# Altium integrated library TI Data Converters Analog to Digital Converter.IntLib: 2198 symbols (part 115 of 164)
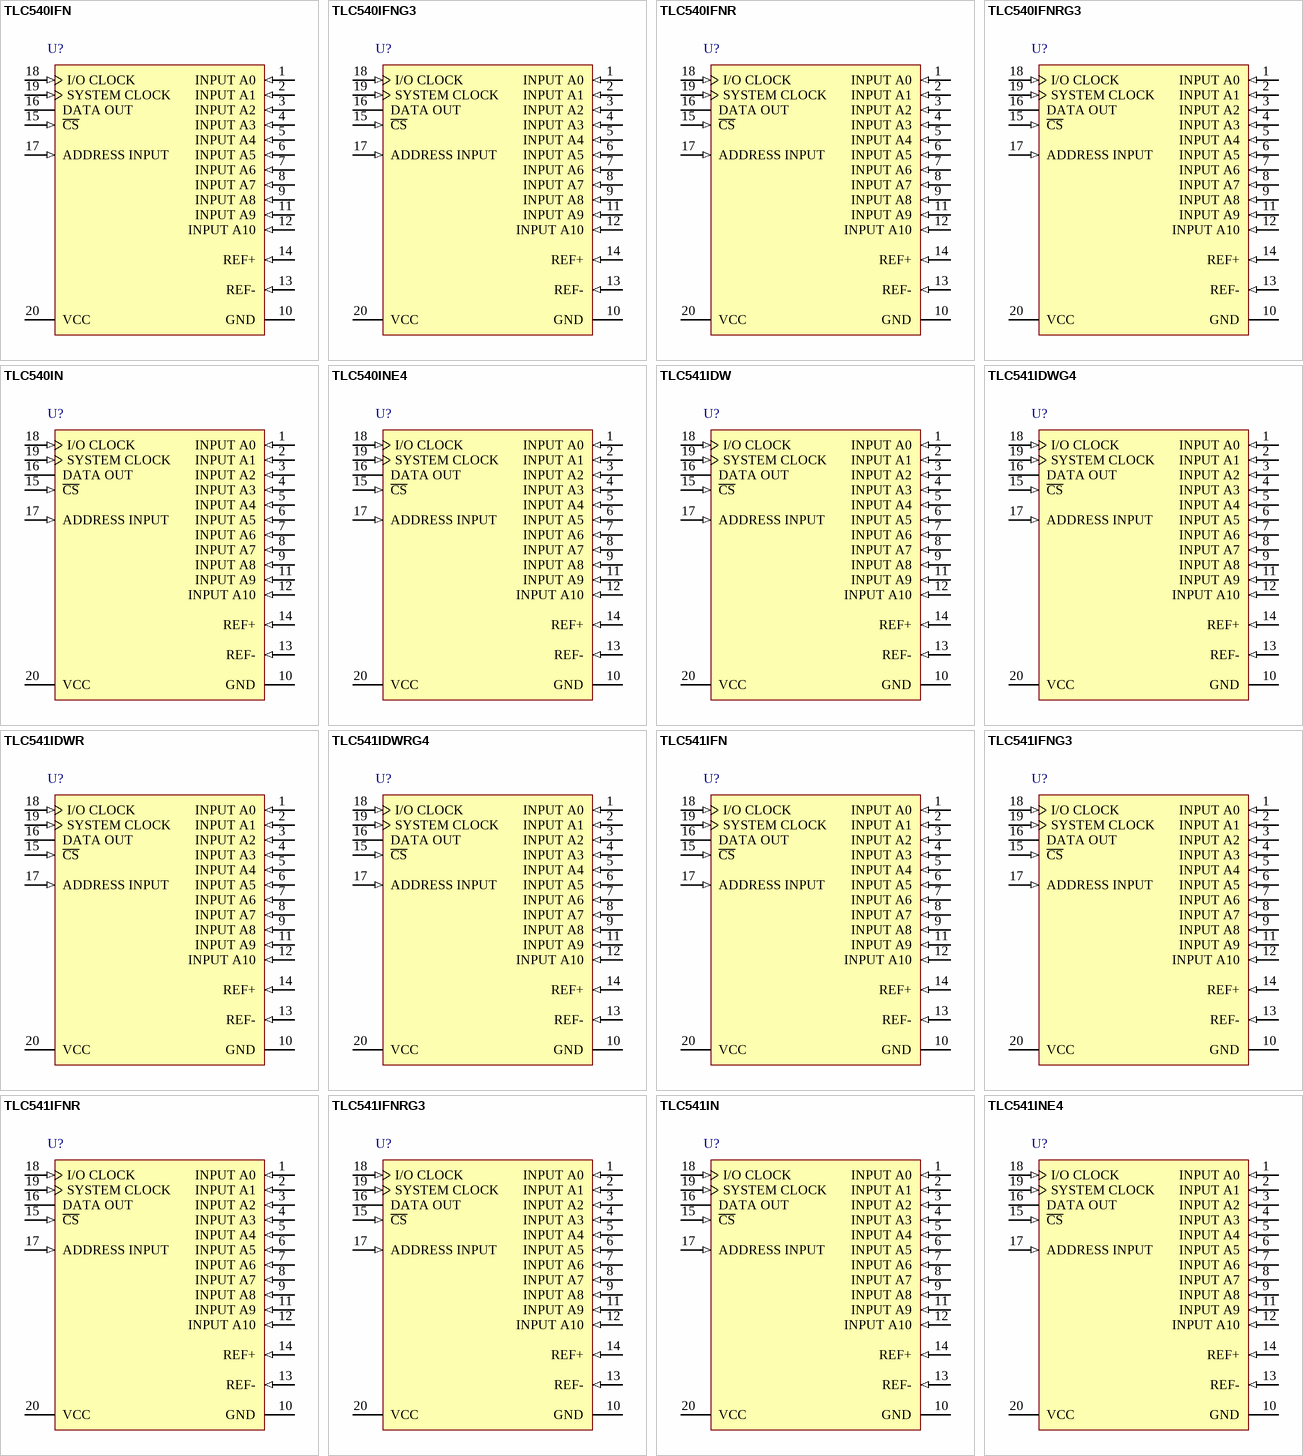
[diagram p240: symbols TLC540IFN to TLC541INE4]

## TLC541IFNR
designator U?
8-Bit, 40 kSPS ADC Serial-Out, On-Chip 12-Channel Analog Multiplexer, 11 Input Channel, -40 to 85 degC, 20-pin PLCC (FN20), Green (RoHS & no Sb/Br); Manufacturer: Texas Instruments; PartNumber: TLC541IFNR; # Input Channels: 11; Analog Voltage AV/DD(Max)(V): 5.5; Analog Voltage AV/DD(Min)(V): 4.75; Architecture: SAR; INL(Max)(+/-LSB): 0.5; Interface: Serial SPI; Resolution(Bits): 8; Sample Rate (max)(SPS): 40k; SubFamily: Precision ADC (<=10MSPS); DatasheetVersion: SLAS065B; PackageVersion: 4040005/B, 03/1995; PackageReference: FN20; PackageDescription: 20-Pin Plastic Chip Carrier, Body 8.965 x 8.965 mm, Pitch 1.27 mm; Supplier 1: Newark; Supplier Part Number 1: 85M0365; Digital Supply(Max)(V): 5.5; Digital Supply(Min)(V): 4.75; Eco-Plan: Green (RoHS & no Sb/Br); Mounting Technology: Surface Mount; Code_JEDEC: MS-018; ComponentLink1Description: Manufacturer URL; ComponentLink1URL: http://www.ti.com/; ComponentLink2Description: Datasheet; ComponentLink2URL: http://www.ti.com/general/docs/lit/getliterature.tsp?genericPartNumber=TLC541&fileType=pdf; ComponentLink3Description: Package Specification; ComponentLink3URL: http://www.ti.com/litv/pdf/mplc004a
footprint TI-FN20_N (PLCC, 20-Leads, Body 8.965x8.965mm, Pitch 1.27mm, IPC Medium Density)
footprint TI-FN20_L (PLCC, 20-Leads, Body 8.965x8.965mm, Pitch 1.27mm, IPC High Density)
footprint TI-FN20_M (PLCC, 20-Leads, Body 8.965x8.965mm, Pitch 1.27mm, IPC Low Density)
pins: 1 INPUT A0 (in), 2 INPUT A1 (in), 3 INPUT A2 (in), 4 INPUT A3 (in), 5 INPUT A4 (in), 6 INPUT A5 (in), 7 INPUT A6 (in), 8 INPUT A7 (in), 9 INPUT A8 (in), 10 GND (power), 11 INPUT A9 (in), 12 INPUT A10 (in), 13 REF- (in), 14 REF+ (in), 15 ~{CS} (in), 16 DATA OUT (hiz), 17 ADDRESS INPUT (in), 18 I/O CLOCK (in), 19 SYSTEM CLOCK (in), 20 VCC (power)

## TLC541IFNRG3
designator U?
8-Bit, 40 kSPS ADC Serial-Out, On-Chip 12-Channel Analog Multiplexer, 11 Input Channel, -40 to 85 degC, 20-pin PLCC (FN20), Green (RoHS & no Sb/Br); Manufacturer: Texas Instruments; PartNumber: TLC541IFNRG3; # Input Channels: 11; Analog Voltage AV/DD(Max)(V): 5.5; Analog Voltage AV/DD(Min)(V): 4.75; Architecture: SAR; INL(Max)(+/-LSB): 0.5; Interface: Serial SPI; Resolution(Bits): 8; Sample Rate (max)(SPS): 40k; SubFamily: Precision ADC (<=10MSPS); DatasheetVersion: SLAS065B; PackageVersion: 4040005/B, 03/1995; PackageReference: FN20; PackageDescription: 20-Pin Plastic Chip Carrier, Body 8.965 x 8.965 mm, Pitch 1.27 mm; Supplier 1: Digi-Key; Supplier Part Number 1: 296-2960-5-ND; Digital Supply(Max)(V): 5.5; Digital Supply(Min)(V): 4.75; Eco-Plan: Green (RoHS & no Sb/Br); Mounting Technology: Surface Mount; Code_JEDEC: MS-018; ComponentLink1Description: Manufacturer URL; ComponentLink1URL: http://www.ti.com/; ComponentLink2Description: Datasheet; ComponentLink2URL: http://www.ti.com/general/docs/lit/getliterature.tsp?genericPartNumber=TLC541&fileType=pdf; ComponentLink3Description: Package Specification; ComponentLink3URL: http://www.ti.com/litv/pdf/mplc004a
footprint TI-FN20_N (PLCC, 20-Leads, Body 8.965x8.965mm, Pitch 1.27mm, IPC Medium Density)
footprint TI-FN20_L (PLCC, 20-Leads, Body 8.965x8.965mm, Pitch 1.27mm, IPC High Density)
footprint TI-FN20_M (PLCC, 20-Leads, Body 8.965x8.965mm, Pitch 1.27mm, IPC Low Density)
pins: 1 INPUT A0 (in), 2 INPUT A1 (in), 3 INPUT A2 (in), 4 INPUT A3 (in), 5 INPUT A4 (in), 6 INPUT A5 (in), 7 INPUT A6 (in), 8 INPUT A7 (in), 9 INPUT A8 (in), 10 GND (power), 11 INPUT A9 (in), 12 INPUT A10 (in), 13 REF- (in), 14 REF+ (in), 15 ~{CS} (in), 16 DATA OUT (hiz), 17 ADDRESS INPUT (in), 18 I/O CLOCK (in), 19 SYSTEM CLOCK (in), 20 VCC (power)

## TLC541IN
designator U?
8-Bit, 40 kSPS ADC Serial-Out, On-Chip 12-Channel Analog Multiplexer, 11 Input Channel, -40 to 85 degC, 20-pin DIP (N20), Pb-Free (RoHS); Manufacturer: Texas Instruments; PartNumber: TLC541IN; # Input Channels: 11; Analog Voltage AV/DD(Max)(V): 5.5; Analog Voltage AV/DD(Min)(V): 4.75; Architecture: SAR; INL(Max)(+/-LSB): 0.5; Interface: Serial SPI; Resolution(Bits): 8; Sample Rate (max)(SPS): 40k; SubFamily: Precision ADC (<=10MSPS); DatasheetVersion: SLAS065B; PackageVersion: 4040049/E, 12/2002; PackageReference: N20; PackageDescription: 20-Pin Plastic In-Line, Body 25.40 x 6.35 mm, Pitch 2.54 mm; Supplier 1: Digi-Key; Supplier Part Number 1: TLV1544CDG4-ND; Digital Supply(Max)(V): 5.5; Digital Supply(Min)(V): 4.75; Eco-Plan: Pb-Free (RoHS); Mounting Technology: Through Hole; Code_JEDEC: MS-001; ComponentLink1Description: Manufacturer URL; ComponentLink1URL: http://www.ti.com/; ComponentLink2Description: Datasheet; ComponentLink2URL: http://www.ti.com/general/docs/lit/getliterature.tsp?genericPartNumber=TLC541&fileType=pdf; ComponentLink3Description: Package Specification; ComponentLink3URL: http://www.ti.com/lit/ml/mpdi002c/mpdi002c.pdf
footprint TI-N20 (DIP, 20-Leads, Body 25.4x6.35 mm, Pitch 2.54 mm)
pins: 1 INPUT A0 (in), 2 INPUT A1 (in), 3 INPUT A2 (in), 4 INPUT A3 (in), 5 INPUT A4 (in), 6 INPUT A5 (in), 7 INPUT A6 (in), 8 INPUT A7 (in), 9 INPUT A8 (in), 10 GND (power), 11 INPUT A9 (in), 12 INPUT A10 (in), 13 REF- (in), 14 REF+ (in), 15 ~{CS} (in), 16 DATA OUT (hiz), 17 ADDRESS INPUT (in), 18 I/O CLOCK (in), 19 SYSTEM CLOCK (in), 20 VCC (power)

## TLC541INE4
designator U?
8-Bit, 40 kSPS ADC Serial-Out, On-Chip 12-Channel Analog Multiplexer, 11 Input Channel, -40 to 85 degC, 20-pin DIP (N20), Pb-Free (RoHS); Manufacturer: Texas Instruments; PartNumber: TLC541INE4; # Input Channels: 11; Analog Voltage AV/DD(Max)(V): 5.5; Analog Voltage AV/DD(Min)(V): 4.75; Architecture: SAR; INL(Max)(+/-LSB): 0.5; Interface: Serial SPI; Resolution(Bits): 8; Sample Rate (max)(SPS): 40k; SubFamily: Precision ADC (<=10MSPS); DatasheetVersion: SLAS065B; PackageVersion: 4040049/E, 12/2002; PackageReference: N20; PackageDescription: 20-Pin Plastic In-Line, Body 25.40 x 6.35 mm, Pitch 2.54 mm; Supplier 1: Digi-Key; Supplier Part Number 1: TLV1544CDR-ND; Digital Supply(Max)(V): 5.5; Digital Supply(Min)(V): 4.75; Eco-Plan: Pb-Free (RoHS); Mounting Technology: Through Hole; Code_JEDEC: MS-001; ComponentLink1Description: Manufacturer URL; ComponentLink1URL: http://www.ti.com/; ComponentLink2Description: Datasheet; ComponentLink2URL: http://www.ti.com/general/docs/lit/getliterature.tsp?genericPartNumber=TLC541&fileType=pdf; ComponentLink3Description: Package Specification; ComponentLink3URL: http://www.ti.com/lit/ml/mpdi002c/mpdi002c.pdf
footprint TI-N20 (DIP, 20-Leads, Body 25.4x6.35 mm, Pitch 2.54 mm)
pins: 1 INPUT A0 (in), 2 INPUT A1 (in), 3 INPUT A2 (in), 4 INPUT A3 (in), 5 INPUT A4 (in), 6 INPUT A5 (in), 7 INPUT A6 (in), 8 INPUT A7 (in), 9 INPUT A8 (in), 10 GND (power), 11 INPUT A9 (in), 12 INPUT A10 (in), 13 REF- (in), 14 REF+ (in), 15 ~{CS} (in), 16 DATA OUT (hiz), 17 ADDRESS INPUT (in), 18 I/O CLOCK (in), 19 SYSTEM CLOCK (in), 20 VCC (power)

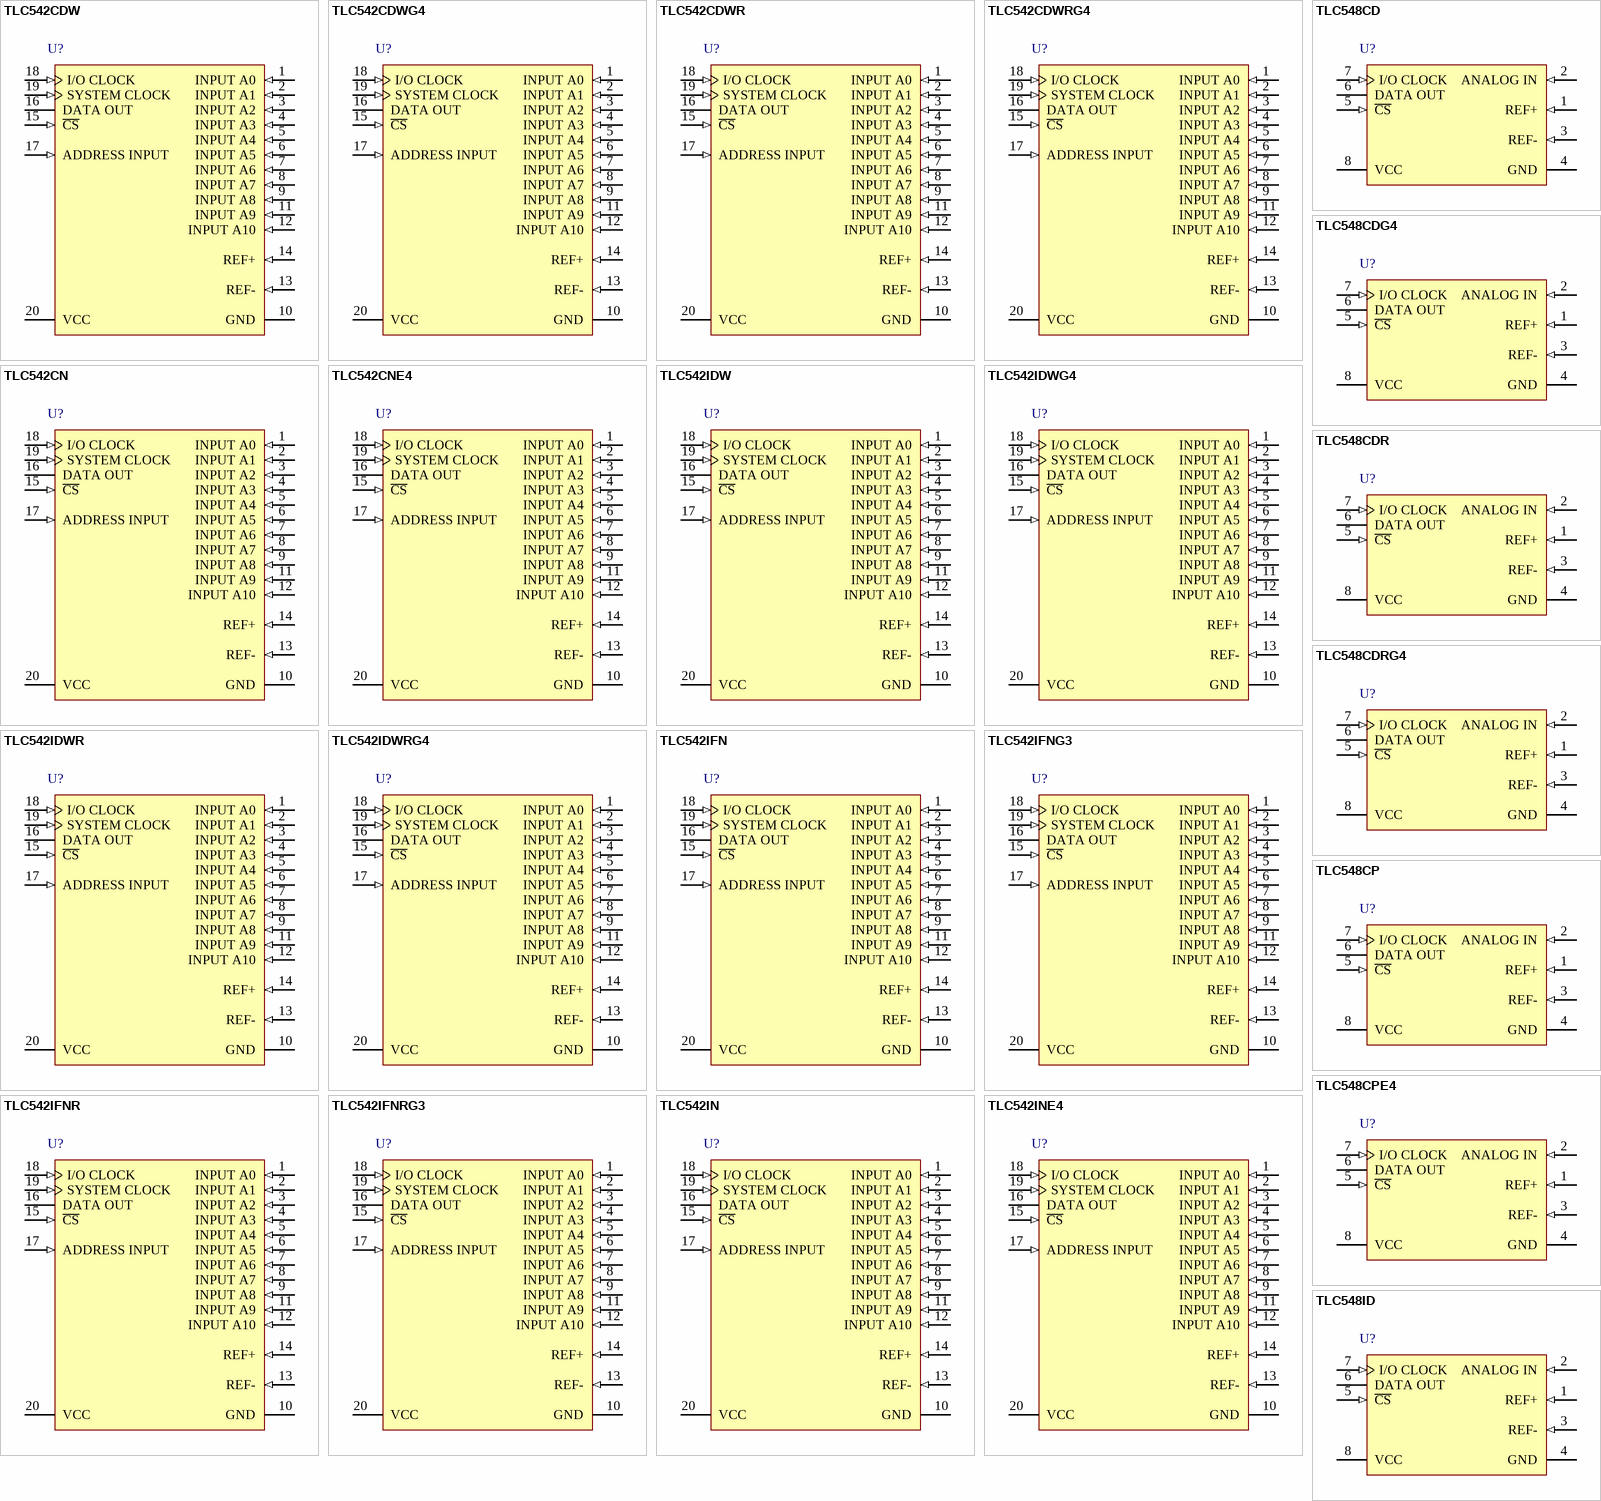
[diagram p101: symbols TLC542CDW to TLC548ID]

## TLC542CDW
designator U?
8-Bit, 25 kSPS ADC Serial-Out, On-Chip 11-Channel Analog Multiplexer, 0 to 70 degC, 20-pin SOIC (DW20), Green (RoHS & no Sb/Br); Manufacturer: Texas Instruments; PartNumber: TLC542CDW; # Input Channels: 11; Analog Voltage AV/DD(Max)(V): 5.5; Analog Voltage AV/DD(Min)(V): 4.75; Architecture: SAR; INL(Max)(+/-LSB): 0.5; Interface: Serial SPI; Resolution(Bits): 8; Sample Rate (max)(SPS): 25k; SubFamily: Low Power, 8-Bit, Dual 1.5 GSPS or Single 3.0 GSPS A/D Converter; DatasheetVersion: SLAS075C; PackageVersion: 4040000-4/G, 01/2011; PackageReference: DW20; PackageDescription: 20-Pin Plastic Small Outline, Body 12.8 x 7.5 mm, Pitch 1.27 mm; Supplier 1: Digi-Key; Supplier Part Number 1: TLV1544CDRG4-ND; Digital Supply(Max)(V): 5.5; Digital Supply(Min)(V): 4.75; Eco-Plan: Green (RoHS & no Sb/Br); Mounting Technology: Surface Mount; Code_JEDEC: MO-013; ComponentLink1Description: Manufacturer URL; ComponentLink1URL: http://www.ti.com/; ComponentLink2Description: Datasheet; ComponentLink2URL: http://www.ti.com/general/docs/lit/getliterature.tsp?genericPartNumber=TLC542&fileType=pdf; ComponentLink3Description: Package Specification; ComponentLink3URL: http://www.ti.com/lit/ml/mpds173a/mpds173a.pdf
footprint TI-DW20_N (SOIC, 20-Leads, Body 12.8x7.5mm, Pitch 1.27mm, IPC Medium Density)
footprint TI-DW20_L (SOIC, 20-Leads, Body 12.8x7.5mm, Pitch 1.27mm, IPC High Density)
footprint TI-DW20_M (SOIC, 20-Leads, Body 12.8x7.5mm, Pitch 1.27mm, IPC Low Density)
pins: 1 INPUT A0 (in), 2 INPUT A1 (in), 3 INPUT A2 (in), 4 INPUT A3 (in), 5 INPUT A4 (in), 6 INPUT A5 (in), 7 INPUT A6 (in), 8 INPUT A7 (in), 9 INPUT A8 (in), 10 GND (power), 11 INPUT A9 (in), 12 INPUT A10 (in), 13 REF- (in), 14 REF+ (in), 15 ~{CS} (in), 16 DATA OUT (hiz), 17 ADDRESS INPUT (in), 18 I/O CLOCK (in), 19 SYSTEM CLOCK (in), 20 VCC (power)

## TLC542CDWG4
designator U?
8-Bit, 25 kSPS ADC Serial-Out, On-Chip 11-Channel Analog Multiplexer, 0 to 70 degC, 20-pin SOIC (DW20), Green (RoHS & no Sb/Br); Manufacturer: Texas Instruments; PartNumber: TLC542CDWG4; # Input Channels: 11; Analog Voltage AV/DD(Max)(V): 5.5; Analog Voltage AV/DD(Min)(V): 4.75; Architecture: SAR; INL(Max)(+/-LSB): 0.5; Interface: Serial SPI; Resolution(Bits): 8; Sample Rate (max)(SPS): 25k; SubFamily: Low Power, 8-Bit, Dual 1.5 GSPS or Single 3.0 GSPS A/D Converter; DatasheetVersion: SLAS075C; PackageVersion: 4040000-4/G, 01/2011; PackageReference: DW20; PackageDescription: 20-Pin Plastic Small Outline, Body 12.8 x 7.5 mm, Pitch 1.27 mm; Supplier 1: Digi-Key; Supplier Part Number 1: 296-2193-5-ND; Digital Supply(Max)(V): 5.5; Digital Supply(Min)(V): 4.75; Eco-Plan: Green (RoHS & no Sb/Br); Mounting Technology: Surface Mount; Code_JEDEC: MO-013; ComponentLink1Description: Manufacturer URL; ComponentLink1URL: http://www.ti.com/; ComponentLink2Description: Datasheet; ComponentLink2URL: http://www.ti.com/general/docs/lit/getliterature.tsp?genericPartNumber=TLC542&fileType=pdf; ComponentLink3Description: Package Specification; ComponentLink3URL: http://www.ti.com/lit/ml/mpds173a/mpds173a.pdf
footprint TI-DW20_N (SOIC, 20-Leads, Body 12.8x7.5mm, Pitch 1.27mm, IPC Medium Density)
footprint TI-DW20_L (SOIC, 20-Leads, Body 12.8x7.5mm, Pitch 1.27mm, IPC High Density)
footprint TI-DW20_M (SOIC, 20-Leads, Body 12.8x7.5mm, Pitch 1.27mm, IPC Low Density)
pins: 1 INPUT A0 (in), 2 INPUT A1 (in), 3 INPUT A2 (in), 4 INPUT A3 (in), 5 INPUT A4 (in), 6 INPUT A5 (in), 7 INPUT A6 (in), 8 INPUT A7 (in), 9 INPUT A8 (in), 10 GND (power), 11 INPUT A9 (in), 12 INPUT A10 (in), 13 REF- (in), 14 REF+ (in), 15 ~{CS} (in), 16 DATA OUT (hiz), 17 ADDRESS INPUT (in), 18 I/O CLOCK (in), 19 SYSTEM CLOCK (in), 20 VCC (power)

## TLC542CDWR
designator U?
8-Bit, 25 kSPS ADC Serial-Out, On-Chip 11-Channel Analog Multiplexer, 0 to 70 degC, 20-pin SOIC (DW20), Green (RoHS & no Sb/Br); Manufacturer: Texas Instruments; PartNumber: TLC542CDWR; # Input Channels: 11; Analog Voltage AV/DD(Max)(V): 5.5; Analog Voltage AV/DD(Min)(V): 4.75; Architecture: SAR; INL(Max)(+/-LSB): 0.5; Interface: Serial SPI; Resolution(Bits): 8; Sample Rate (max)(SPS): 25k; SubFamily: Low Power, 8-Bit, Dual 1.5 GSPS or Single 3.0 GSPS A/D Converter; DatasheetVersion: SLAS075C; PackageVersion: 4040000-4/G, 01/2011; PackageReference: DW20; PackageDescription: 20-Pin Plastic Small Outline, Body 12.8 x 7.5 mm, Pitch 1.27 mm; Supplier 1: Digi-Key; Supplier Part Number 1: TLV1544CPWG4-ND; Digital Supply(Max)(V): 5.5; Digital Supply(Min)(V): 4.75; Eco-Plan: Green (RoHS & no Sb/Br); Mounting Technology: Surface Mount; Code_JEDEC: MO-013; ComponentLink1Description: Manufacturer URL; ComponentLink1URL: http://www.ti.com/; ComponentLink2Description: Datasheet; ComponentLink2URL: http://www.ti.com/general/docs/lit/getliterature.tsp?genericPartNumber=TLC542&fileType=pdf; ComponentLink3Description: Package Specification; ComponentLink3URL: http://www.ti.com/lit/ml/mpds173a/mpds173a.pdf
footprint TI-DW20_N (SOIC, 20-Leads, Body 12.8x7.5mm, Pitch 1.27mm, IPC Medium Density)
footprint TI-DW20_L (SOIC, 20-Leads, Body 12.8x7.5mm, Pitch 1.27mm, IPC High Density)
footprint TI-DW20_M (SOIC, 20-Leads, Body 12.8x7.5mm, Pitch 1.27mm, IPC Low Density)
pins: 1 INPUT A0 (in), 2 INPUT A1 (in), 3 INPUT A2 (in), 4 INPUT A3 (in), 5 INPUT A4 (in), 6 INPUT A5 (in), 7 INPUT A6 (in), 8 INPUT A7 (in), 9 INPUT A8 (in), 10 GND (power), 11 INPUT A9 (in), 12 INPUT A10 (in), 13 REF- (in), 14 REF+ (in), 15 ~{CS} (in), 16 DATA OUT (hiz), 17 ADDRESS INPUT (in), 18 I/O CLOCK (in), 19 SYSTEM CLOCK (in), 20 VCC (power)

## TLC542CDWRG4
designator U?
8-Bit, 25 kSPS ADC Serial-Out, On-Chip 11-Channel Analog Multiplexer, 0 to 70 degC, 20-pin SOIC (DW20), Green (RoHS & no Sb/Br); Manufacturer: Texas Instruments; PartNumber: TLC542CDWRG4; # Input Channels: 11; Analog Voltage AV/DD(Max)(V): 5.5; Analog Voltage AV/DD(Min)(V): 4.75; Architecture: SAR; INL(Max)(+/-LSB): 0.5; Interface: Serial SPI; Resolution(Bits): 8; Sample Rate (max)(SPS): 25k; SubFamily: Low Power, 8-Bit, Dual 1.5 GSPS or Single 3.0 GSPS A/D Converter; DatasheetVersion: SLAS075C; PackageVersion: 4040000-4/G, 01/2011; PackageReference: DW20; PackageDescription: 20-Pin Plastic Small Outline, Body 12.8 x 7.5 mm, Pitch 1.27 mm; Supplier 1: Digi-Key; Supplier Part Number 1: TLV1544CPWR-ND; Digital Supply(Max)(V): 5.5; Digital Supply(Min)(V): 4.75; Eco-Plan: Green (RoHS & no Sb/Br); Mounting Technology: Surface Mount; Code_JEDEC: MO-013; ComponentLink1Description: Manufacturer URL; ComponentLink1URL: http://www.ti.com/; ComponentLink2Description: Datasheet; ComponentLink2URL: http://www.ti.com/general/docs/lit/getliterature.tsp?genericPartNumber=TLC542&fileType=pdf; ComponentLink3Description: Package Specification; ComponentLink3URL: http://www.ti.com/lit/ml/mpds173a/mpds173a.pdf
footprint TI-DW20_N (SOIC, 20-Leads, Body 12.8x7.5mm, Pitch 1.27mm, IPC Medium Density)
footprint TI-DW20_L (SOIC, 20-Leads, Body 12.8x7.5mm, Pitch 1.27mm, IPC High Density)
footprint TI-DW20_M (SOIC, 20-Leads, Body 12.8x7.5mm, Pitch 1.27mm, IPC Low Density)
pins: 1 INPUT A0 (in), 2 INPUT A1 (in), 3 INPUT A2 (in), 4 INPUT A3 (in), 5 INPUT A4 (in), 6 INPUT A5 (in), 7 INPUT A6 (in), 8 INPUT A7 (in), 9 INPUT A8 (in), 10 GND (power), 11 INPUT A9 (in), 12 INPUT A10 (in), 13 REF- (in), 14 REF+ (in), 15 ~{CS} (in), 16 DATA OUT (hiz), 17 ADDRESS INPUT (in), 18 I/O CLOCK (in), 19 SYSTEM CLOCK (in), 20 VCC (power)

## TLC542CN
designator U?
8-Bit, 25 kSPS ADC Serial-Out, On-Chip 11-Channel Analog Multiplexer, 0 to 70 degC, 20-pin DIP (N20), Pb-Free (RoHS); Manufacturer: Texas Instruments; PartNumber: TLC542CN; # Input Channels: 11; Analog Voltage AV/DD(Max)(V): 5.5; Analog Voltage AV/DD(Min)(V): 4.75; Architecture: SAR; INL(Max)(+/-LSB): 0.5; Interface: Serial SPI; Resolution(Bits): 8; Sample Rate (max)(SPS): 25k; SubFamily: Low Power, 8-Bit, Dual 1.5 GSPS or Single 3.0 GSPS A/D Converter; DatasheetVersion: SLAS075C; PackageVersion: 4040049/E, 12/2002; PackageReference: N20; PackageDescription: 20-Pin Plastic In-Line, Body 25.40 x 6.35 mm, Pitch 2.54 mm; Supplier 1: Digi-Key; Supplier Part Number 1: TLV1544CPWRG4-ND; Digital Supply(Max)(V): 5.5; Digital Supply(Min)(V): 4.75; Eco-Plan: Pb-Free (RoHS); Mounting Technology: Through Hole; Code_JEDEC: MS-001; ComponentLink1Description: Manufacturer URL; ComponentLink1URL: http://www.ti.com/; ComponentLink2Description: Datasheet; ComponentLink2URL: http://www.ti.com/general/docs/lit/getliterature.tsp?genericPartNumber=TLC542&fileType=pdf; ComponentLink3Description: Package Specification; ComponentLink3URL: http://www.ti.com/lit/ml/mpdi002c/mpdi002c.pdf
footprint TI-N20 (DIP, 20-Leads, Body 25.4x6.35 mm, Pitch 2.54 mm)
pins: 1 INPUT A0 (in), 2 INPUT A1 (in), 3 INPUT A2 (in), 4 INPUT A3 (in), 5 INPUT A4 (in), 6 INPUT A5 (in), 7 INPUT A6 (in), 8 INPUT A7 (in), 9 INPUT A8 (in), 10 GND (power), 11 INPUT A9 (in), 12 INPUT A10 (in), 13 REF- (in), 14 REF+ (in), 15 ~{CS} (in), 16 DATA OUT (hiz), 17 ADDRESS INPUT (in), 18 I/O CLOCK (in), 19 SYSTEM CLOCK (in), 20 VCC (power)

## TLC542CNE4
designator U?
8-Bit, 25 kSPS ADC Serial-Out, On-Chip 11-Channel Analog Multiplexer, 0 to 70 degC, 20-pin DIP (N20), Pb-Free (RoHS); Manufacturer: Texas Instruments; PartNumber: TLC542CNE4; # Input Channels: 11; Analog Voltage AV/DD(Max)(V): 5.5; Analog Voltage AV/DD(Min)(V): 4.75; Architecture: SAR; INL(Max)(+/-LSB): 0.5; Interface: Serial SPI; Resolution(Bits): 8; Sample Rate (max)(SPS): 25k; SubFamily: Low Power, 8-Bit, Dual 1.5 GSPS or Single 3.0 GSPS A/D Converter; DatasheetVersion: SLAS075C; PackageVersion: 4040049/E, 12/2002; PackageReference: N20; PackageDescription: 20-Pin Plastic In-Line, Body 25.40 x 6.35 mm, Pitch 2.54 mm; Supplier 1: Digi-Key; Supplier Part Number 1: 296-2961-5-ND; Digital Supply(Max)(V): 5.5; Digital Supply(Min)(V): 4.75; Eco-Plan: Pb-Free (RoHS); Mounting Technology: Through Hole; Code_JEDEC: MS-001; ComponentLink1Description: Manufacturer URL; ComponentLink1URL: http://www.ti.com/; ComponentLink2Description: Datasheet; ComponentLink2URL: http://www.ti.com/general/docs/lit/getliterature.tsp?genericPartNumber=TLC542&fileType=pdf; ComponentLink3Description: Package Specification; ComponentLink3URL: http://www.ti.com/lit/ml/mpdi002c/mpdi002c.pdf
footprint TI-N20 (DIP, 20-Leads, Body 25.4x6.35 mm, Pitch 2.54 mm)
pins: 1 INPUT A0 (in), 2 INPUT A1 (in), 3 INPUT A2 (in), 4 INPUT A3 (in), 5 INPUT A4 (in), 6 INPUT A5 (in), 7 INPUT A6 (in), 8 INPUT A7 (in), 9 INPUT A8 (in), 10 GND (power), 11 INPUT A9 (in), 12 INPUT A10 (in), 13 REF- (in), 14 REF+ (in), 15 ~{CS} (in), 16 DATA OUT (hiz), 17 ADDRESS INPUT (in), 18 I/O CLOCK (in), 19 SYSTEM CLOCK (in), 20 VCC (power)

## TLC542IDW
designator U?
8-Bit, 25 kSPS ADC Serial-Out, On-Chip 11-Channel Analog Multiplexer, -40 to 85 degC, 20-pin SOIC (DW20), Green (RoHS & no Sb/Br); Manufacturer: Texas Instruments; PartNumber: TLC542IDW; # Input Channels: 11; Analog Voltage AV/DD(Max)(V): 5.5; Analog Voltage AV/DD(Min)(V): 4.75; Architecture: SAR; INL(Max)(+/-LSB): 0.5; Interface: Serial SPI; Resolution(Bits): 8; Sample Rate (max)(SPS): 25k; SubFamily: Low Power, 8-Bit, Dual 1.5 GSPS or Single 3.0 GSPS A/D Converter; DatasheetVersion: SLAS075C; PackageVersion: 4040000-4/G, 01/2011; PackageReference: DW20; PackageDescription: 20-Pin Plastic Small Outline, Body 12.8 x 7.5 mm, Pitch 1.27 mm; Supplier 1: Digi-Key; Supplier Part Number 1: TLV1544IDG4-ND; Digital Supply(Max)(V): 5.5; Digital Supply(Min)(V): 4.75; Eco-Plan: Green (RoHS & no Sb/Br); Mounting Technology: Surface Mount; Code_JEDEC: MO-013; ComponentLink1Description: Manufacturer URL; ComponentLink1URL: http://www.ti.com/; ComponentLink2Description: Datasheet; ComponentLink2URL: http://www.ti.com/general/docs/lit/getliterature.tsp?genericPartNumber=TLC542&fileType=pdf; ComponentLink3Description: Package Specification; ComponentLink3URL: http://www.ti.com/lit/ml/mpds173a/mpds173a.pdf
footprint TI-DW20_N (SOIC, 20-Leads, Body 12.8x7.5mm, Pitch 1.27mm, IPC Medium Density)
footprint TI-DW20_L (SOIC, 20-Leads, Body 12.8x7.5mm, Pitch 1.27mm, IPC High Density)
footprint TI-DW20_M (SOIC, 20-Leads, Body 12.8x7.5mm, Pitch 1.27mm, IPC Low Density)
pins: 1 INPUT A0 (in), 2 INPUT A1 (in), 3 INPUT A2 (in), 4 INPUT A3 (in), 5 INPUT A4 (in), 6 INPUT A5 (in), 7 INPUT A6 (in), 8 INPUT A7 (in), 9 INPUT A8 (in), 10 GND (power), 11 INPUT A9 (in), 12 INPUT A10 (in), 13 REF- (in), 14 REF+ (in), 15 ~{CS} (in), 16 DATA OUT (hiz), 17 ADDRESS INPUT (in), 18 I/O CLOCK (in), 19 SYSTEM CLOCK (in), 20 VCC (power)

## TLC542IDWG4
designator U?
8-Bit, 25 kSPS ADC Serial-Out, On-Chip 11-Channel Analog Multiplexer, -40 to 85 degC, 20-pin SOIC (DW20), Green (RoHS & no Sb/Br); Manufacturer: Texas Instruments; PartNumber: TLC542IDWG4; # Input Channels: 11; Analog Voltage AV/DD(Max)(V): 5.5; Analog Voltage AV/DD(Min)(V): 4.75; Architecture: SAR; INL(Max)(+/-LSB): 0.5; Interface: Serial SPI; Resolution(Bits): 8; Sample Rate (max)(SPS): 25k; SubFamily: Low Power, 8-Bit, Dual 1.5 GSPS or Single 3.0 GSPS A/D Converter; DatasheetVersion: SLAS075C; PackageVersion: 4040000-4/G, 01/2011; PackageReference: DW20; PackageDescription: 20-Pin Plastic Small Outline, Body 12.8 x 7.5 mm, Pitch 1.27 mm; Supplier 1: Digi-Key; Supplier Part Number 1: TLV1544IDR-ND; Digital Supply(Max)(V): 5.5; Digital Supply(Min)(V): 4.75; Eco-Plan: Green (RoHS & no Sb/Br); Mounting Technology: Surface Mount; Code_JEDEC: MO-013; ComponentLink1Description: Manufacturer URL; ComponentLink1URL: http://www.ti.com/; ComponentLink2Description: Datasheet; ComponentLink2URL: http://www.ti.com/general/docs/lit/getliterature.tsp?genericPartNumber=TLC542&fileType=pdf; ComponentLink3Description: Package Specification; ComponentLink3URL: http://www.ti.com/lit/ml/mpds173a/mpds173a.pdf
footprint TI-DW20_N (SOIC, 20-Leads, Body 12.8x7.5mm, Pitch 1.27mm, IPC Medium Density)
footprint TI-DW20_L (SOIC, 20-Leads, Body 12.8x7.5mm, Pitch 1.27mm, IPC High Density)
footprint TI-DW20_M (SOIC, 20-Leads, Body 12.8x7.5mm, Pitch 1.27mm, IPC Low Density)
pins: 1 INPUT A0 (in), 2 INPUT A1 (in), 3 INPUT A2 (in), 4 INPUT A3 (in), 5 INPUT A4 (in), 6 INPUT A5 (in), 7 INPUT A6 (in), 8 INPUT A7 (in), 9 INPUT A8 (in), 10 GND (power), 11 INPUT A9 (in), 12 INPUT A10 (in), 13 REF- (in), 14 REF+ (in), 15 ~{CS} (in), 16 DATA OUT (hiz), 17 ADDRESS INPUT (in), 18 I/O CLOCK (in), 19 SYSTEM CLOCK (in), 20 VCC (power)

## TLC542IDWR
designator U?
8-Bit, 25 kSPS ADC Serial-Out, On-Chip 11-Channel Analog Multiplexer, -40 to 85 degC, 20-pin SOIC (DW20), Green (RoHS & no Sb/Br); Manufacturer: Texas Instruments; PartNumber: TLC542IDWR; # Input Channels: 11; Analog Voltage AV/DD(Max)(V): 5.5; Analog Voltage AV/DD(Min)(V): 4.75; Architecture: SAR; INL(Max)(+/-LSB): 0.5; Interface: Serial SPI; Resolution(Bits): 8; Sample Rate (max)(SPS): 25k; SubFamily: Low Power, 8-Bit, Dual 1.5 GSPS or Single 3.0 GSPS A/D Converter; DatasheetVersion: SLAS075C; PackageVersion: 4040000-4/G, 01/2011; PackageReference: DW20; PackageDescription: 20-Pin Plastic Small Outline, Body 12.8 x 7.5 mm, Pitch 1.27 mm; Supplier 1: Digi-Key; Supplier Part Number 1: TLV1544IDRG4-ND; Digital Supply(Max)(V): 5.5; Digital Supply(Min)(V): 4.75; Eco-Plan: Green (RoHS & no Sb/Br); Mounting Technology: Surface Mount; Code_JEDEC: MO-013; ComponentLink1Description: Manufacturer URL; ComponentLink1URL: http://www.ti.com/; ComponentLink2Description: Datasheet; ComponentLink2URL: http://www.ti.com/general/docs/lit/getliterature.tsp?genericPartNumber=TLC542&fileType=pdf; ComponentLink3Description: Package Specification; ComponentLink3URL: http://www.ti.com/lit/ml/mpds173a/mpds173a.pdf
footprint TI-DW20_N (SOIC, 20-Leads, Body 12.8x7.5mm, Pitch 1.27mm, IPC Medium Density)
footprint TI-DW20_L (SOIC, 20-Leads, Body 12.8x7.5mm, Pitch 1.27mm, IPC High Density)
footprint TI-DW20_M (SOIC, 20-Leads, Body 12.8x7.5mm, Pitch 1.27mm, IPC Low Density)
pins: 1 INPUT A0 (in), 2 INPUT A1 (in), 3 INPUT A2 (in), 4 INPUT A3 (in), 5 INPUT A4 (in), 6 INPUT A5 (in), 7 INPUT A6 (in), 8 INPUT A7 (in), 9 INPUT A8 (in), 10 GND (power), 11 INPUT A9 (in), 12 INPUT A10 (in), 13 REF- (in), 14 REF+ (in), 15 ~{CS} (in), 16 DATA OUT (hiz), 17 ADDRESS INPUT (in), 18 I/O CLOCK (in), 19 SYSTEM CLOCK (in), 20 VCC (power)

## TLC542IDWRG4
designator U?
8-Bit, 25 kSPS ADC Serial-Out, On-Chip 11-Channel Analog Multiplexer, -40 to 85 degC, 20-pin SOIC (DW20), Green (RoHS & no Sb/Br); Manufacturer: Texas Instruments; PartNumber: TLC542IDWRG4; # Input Channels: 11; Analog Voltage AV/DD(Max)(V): 5.5; Analog Voltage AV/DD(Min)(V): 4.75; Architecture: SAR; INL(Max)(+/-LSB): 0.5; Interface: Serial SPI; Resolution(Bits): 8; Sample Rate (max)(SPS): 25k; SubFamily: Low Power, 8-Bit, Dual 1.5 GSPS or Single 3.0 GSPS A/D Converter; DatasheetVersion: SLAS075C; PackageVersion: 4040000-4/G, 01/2011; PackageReference: DW20; PackageDescription: 20-Pin Plastic Small Outline, Body 12.8 x 7.5 mm, Pitch 1.27 mm; Supplier 1: Digi-Key; Supplier Part Number 1: TLV1544IPW-ND; Digital Supply(Max)(V): 5.5; Digital Supply(Min)(V): 4.75; Eco-Plan: Green (RoHS & no Sb/Br); Mounting Technology: Surface Mount; Code_JEDEC: MO-013; ComponentLink1Description: Manufacturer URL; ComponentLink1URL: http://www.ti.com/; ComponentLink2Description: Datasheet; ComponentLink2URL: http://www.ti.com/general/docs/lit/getliterature.tsp?genericPartNumber=TLC542&fileType=pdf; ComponentLink3Description: Package Specification; ComponentLink3URL: http://www.ti.com/lit/ml/mpds173a/mpds173a.pdf
footprint TI-DW20_N (SOIC, 20-Leads, Body 12.8x7.5mm, Pitch 1.27mm, IPC Medium Density)
footprint TI-DW20_L (SOIC, 20-Leads, Body 12.8x7.5mm, Pitch 1.27mm, IPC High Density)
footprint TI-DW20_M (SOIC, 20-Leads, Body 12.8x7.5mm, Pitch 1.27mm, IPC Low Density)
pins: 1 INPUT A0 (in), 2 INPUT A1 (in), 3 INPUT A2 (in), 4 INPUT A3 (in), 5 INPUT A4 (in), 6 INPUT A5 (in), 7 INPUT A6 (in), 8 INPUT A7 (in), 9 INPUT A8 (in), 10 GND (power), 11 INPUT A9 (in), 12 INPUT A10 (in), 13 REF- (in), 14 REF+ (in), 15 ~{CS} (in), 16 DATA OUT (hiz), 17 ADDRESS INPUT (in), 18 I/O CLOCK (in), 19 SYSTEM CLOCK (in), 20 VCC (power)

## TLC542IFN
designator U?
8-Bit, 25 kSPS ADC Serial-Out, On-Chip 11-Channel Analog Multiplexer, -40 to 85 degC, 20-pin PLCC (FN20), Green (RoHS & no Sb/Br); Manufacturer: Texas Instruments; PartNumber: TLC542IFN; # Input Channels: 11; Analog Voltage AV/DD(Max)(V): 5.5; Analog Voltage AV/DD(Min)(V): 4.75; Architecture: SAR; INL(Max)(+/-LSB): 0.5; Interface: Serial SPI; Resolution(Bits): 8; Sample Rate (max)(SPS): 25k; SubFamily: Low Power, 8-Bit, Dual 1.5 GSPS or Single 3.0 GSPS A/D Converter; DatasheetVersion: SLAS075C; PackageVersion: 4040005/B, 03/1995; PackageReference: FN20; PackageDescription: 20-Pin Plastic Chip Carrier, Body 8.965 x 8.965 mm, Pitch 1.27 mm; Supplier 1: Digi-Key; Supplier Part Number 1: TLV1544IPWG4-ND; Digital Supply(Max)(V): 5.5; Digital Supply(Min)(V): 4.75; Eco-Plan: Green (RoHS & no Sb/Br); Mounting Technology: Surface Mount; Code_JEDEC: MS-018; ComponentLink1Description: Manufacturer URL; ComponentLink1URL: http://www.ti.com/; ComponentLink2Description: Datasheet; ComponentLink2URL: http://www.ti.com/general/docs/lit/getliterature.tsp?genericPartNumber=TLC542&fileType=pdf; ComponentLink3Description: Package Specification; ComponentLink3URL: http://www.ti.com/litv/pdf/mplc004a
footprint TI-FN20_N (PLCC, 20-Leads, Body 8.965x8.965mm, Pitch 1.27mm, IPC Medium Density)
footprint TI-FN20_L (PLCC, 20-Leads, Body 8.965x8.965mm, Pitch 1.27mm, IPC High Density)
footprint TI-FN20_M (PLCC, 20-Leads, Body 8.965x8.965mm, Pitch 1.27mm, IPC Low Density)
pins: 1 INPUT A0 (in), 2 INPUT A1 (in), 3 INPUT A2 (in), 4 INPUT A3 (in), 5 INPUT A4 (in), 6 INPUT A5 (in), 7 INPUT A6 (in), 8 INPUT A7 (in), 9 INPUT A8 (in), 10 GND (power), 11 INPUT A9 (in), 12 INPUT A10 (in), 13 REF- (in), 14 REF+ (in), 15 ~{CS} (in), 16 DATA OUT (hiz), 17 ADDRESS INPUT (in), 18 I/O CLOCK (in), 19 SYSTEM CLOCK (in), 20 VCC (power)

## TLC542IFNG3
designator U?
8-Bit, 25 kSPS ADC Serial-Out, On-Chip 11-Channel Analog Multiplexer, -40 to 85 degC, 20-pin PLCC (FN20), Green (RoHS & no Sb/Br); Manufacturer: Texas Instruments; PartNumber: TLC542IFNG3; # Input Channels: 11; Analog Voltage AV/DD(Max)(V): 5.5; Analog Voltage AV/DD(Min)(V): 4.75; Architecture: SAR; INL(Max)(+/-LSB): 0.5; Interface: Serial SPI; Resolution(Bits): 8; Sample Rate (max)(SPS): 25k; SubFamily: Low Power, 8-Bit, Dual 1.5 GSPS or Single 3.0 GSPS A/D Converter; DatasheetVersion: SLAS075C; PackageVersion: 4040005/B, 03/1995; PackageReference: FN20; PackageDescription: 20-Pin Plastic Chip Carrier, Body 8.965 x 8.965 mm, Pitch 1.27 mm; Supplier 1: Digi-Key; Supplier Part Number 1: TLV1544IPWR-ND; Digital Supply(Max)(V): 5.5; Digital Supply(Min)(V): 4.75; Eco-Plan: Green (RoHS & no Sb/Br); Mounting Technology: Surface Mount; Code_JEDEC: MS-018; ComponentLink1Description: Manufacturer URL; ComponentLink1URL: http://www.ti.com/; ComponentLink2Description: Datasheet; ComponentLink2URL: http://www.ti.com/general/docs/lit/getliterature.tsp?genericPartNumber=TLC542&fileType=pdf; ComponentLink3Description: Package Specification; ComponentLink3URL: http://www.ti.com/litv/pdf/mplc004a
footprint TI-FN20_N (PLCC, 20-Leads, Body 8.965x8.965mm, Pitch 1.27mm, IPC Medium Density)
footprint TI-FN20_L (PLCC, 20-Leads, Body 8.965x8.965mm, Pitch 1.27mm, IPC High Density)
footprint TI-FN20_M (PLCC, 20-Leads, Body 8.965x8.965mm, Pitch 1.27mm, IPC Low Density)
pins: 1 INPUT A0 (in), 2 INPUT A1 (in), 3 INPUT A2 (in), 4 INPUT A3 (in), 5 INPUT A4 (in), 6 INPUT A5 (in), 7 INPUT A6 (in), 8 INPUT A7 (in), 9 INPUT A8 (in), 10 GND (power), 11 INPUT A9 (in), 12 INPUT A10 (in), 13 REF- (in), 14 REF+ (in), 15 ~{CS} (in), 16 DATA OUT (hiz), 17 ADDRESS INPUT (in), 18 I/O CLOCK (in), 19 SYSTEM CLOCK (in), 20 VCC (power)

## TLC542IFNR
designator U?
8-Bit, 25 kSPS ADC Serial-Out, On-Chip 11-Channel Analog Multiplexer, -40 to 85 degC, 20-pin PLCC (FN20), Green (RoHS & no Sb/Br); Manufacturer: Texas Instruments; PartNumber: TLC542IFNR; # Input Channels: 11; Analog Voltage AV/DD(Max)(V): 5.5; Analog Voltage AV/DD(Min)(V): 4.75; Architecture: SAR; INL(Max)(+/-LSB): 0.5; Interface: Serial SPI; Resolution(Bits): 8; Sample Rate (max)(SPS): 25k; SubFamily: Low Power, 8-Bit, Dual 1.5 GSPS or Single 3.0 GSPS A/D Converter; DatasheetVersion: SLAS075C; PackageVersion: 4040005/B, 03/1995; PackageReference: FN20; PackageDescription: 20-Pin Plastic Chip Carrier, Body 8.965 x 8.965 mm, Pitch 1.27 mm; Supplier 1: Digi-Key; Supplier Part Number 1: TLV1544IPWRG4-ND; Digital Supply(Max)(V): 5.5; Digital Supply(Min)(V): 4.75; Eco-Plan: Green (RoHS & no Sb/Br); Mounting Technology: Surface Mount; Code_JEDEC: MS-018; ComponentLink1Description: Manufacturer URL; ComponentLink1URL: http://www.ti.com/; ComponentLink2Description: Datasheet; ComponentLink2URL: http://www.ti.com/general/docs/lit/getliterature.tsp?genericPartNumber=TLC542&fileType=pdf; ComponentLink3Description: Package Specification; ComponentLink3URL: http://www.ti.com/litv/pdf/mplc004a
footprint TI-FN20_N (PLCC, 20-Leads, Body 8.965x8.965mm, Pitch 1.27mm, IPC Medium Density)
footprint TI-FN20_L (PLCC, 20-Leads, Body 8.965x8.965mm, Pitch 1.27mm, IPC High Density)
footprint TI-FN20_M (PLCC, 20-Leads, Body 8.965x8.965mm, Pitch 1.27mm, IPC Low Density)
pins: 1 INPUT A0 (in), 2 INPUT A1 (in), 3 INPUT A2 (in), 4 INPUT A3 (in), 5 INPUT A4 (in), 6 INPUT A5 (in), 7 INPUT A6 (in), 8 INPUT A7 (in), 9 INPUT A8 (in), 10 GND (power), 11 INPUT A9 (in), 12 INPUT A10 (in), 13 REF- (in), 14 REF+ (in), 15 ~{CS} (in), 16 DATA OUT (hiz), 17 ADDRESS INPUT (in), 18 I/O CLOCK (in), 19 SYSTEM CLOCK (in), 20 VCC (power)

## TLC542IFNRG3
designator U?
8-Bit, 25 kSPS ADC Serial-Out, On-Chip 11-Channel Analog Multiplexer, -40 to 85 degC, 20-pin PLCC (FN20), Green (RoHS & no Sb/Br); Manufacturer: Texas Instruments; PartNumber: TLC542IFNRG3; # Input Channels: 11; Analog Voltage AV/DD(Max)(V): 5.5; Analog Voltage AV/DD(Min)(V): 4.75; Architecture: SAR; INL(Max)(+/-LSB): 0.5; Interface: Serial SPI; Resolution(Bits): 8; Sample Rate (max)(SPS): 25k; SubFamily: Low Power, 8-Bit, Dual 1.5 GSPS or Single 3.0 GSPS A/D Converter; DatasheetVersion: SLAS075C; PackageVersion: 4040005/B, 03/1995; PackageReference: FN20; PackageDescription: 20-Pin Plastic Chip Carrier, Body 8.965 x 8.965 mm, Pitch 1.27 mm; Supplier 1: Digi-Key; Supplier Part Number 1: 296-23796-2-ND; Digital Supply(Max)(V): 5.5; Digital Supply(Min)(V): 4.75; Eco-Plan: Green (RoHS & no Sb/Br); Mounting Technology: Surface Mount; Code_JEDEC: MS-018; ComponentLink1Description: Manufacturer URL; ComponentLink1URL: http://www.ti.com/; ComponentLink2Description: Datasheet; ComponentLink2URL: http://www.ti.com/general/docs/lit/getliterature.tsp?genericPartNumber=TLC542&fileType=pdf; ComponentLink3Description: Package Specification; ComponentLink3URL: http://www.ti.com/litv/pdf/mplc004a
footprint TI-FN20_N (PLCC, 20-Leads, Body 8.965x8.965mm, Pitch 1.27mm, IPC Medium Density)
footprint TI-FN20_L (PLCC, 20-Leads, Body 8.965x8.965mm, Pitch 1.27mm, IPC High Density)
footprint TI-FN20_M (PLCC, 20-Leads, Body 8.965x8.965mm, Pitch 1.27mm, IPC Low Density)
pins: 1 INPUT A0 (in), 2 INPUT A1 (in), 3 INPUT A2 (in), 4 INPUT A3 (in), 5 INPUT A4 (in), 6 INPUT A5 (in), 7 INPUT A6 (in), 8 INPUT A7 (in), 9 INPUT A8 (in), 10 GND (power), 11 INPUT A9 (in), 12 INPUT A10 (in), 13 REF- (in), 14 REF+ (in), 15 ~{CS} (in), 16 DATA OUT (hiz), 17 ADDRESS INPUT (in), 18 I/O CLOCK (in), 19 SYSTEM CLOCK (in), 20 VCC (power)

## TLC542IN
designator U?
8-Bit, 25 kSPS ADC Serial-Out, On-Chip 11-Channel Analog Multiplexer, -40 to 85 degC, 20-pin DIP (N20), Pb-Free (RoHS); Manufacturer: Texas Instruments; PartNumber: TLC542IN; # Input Channels: 11; Analog Voltage AV/DD(Max)(V): 5.5; Analog Voltage AV/DD(Min)(V): 4.75; Architecture: SAR; INL(Max)(+/-LSB): 0.5; Interface: Serial SPI; Resolution(Bits): 8; Sample Rate (max)(SPS): 25k; SubFamily: Low Power, 8-Bit, Dual 1.5 GSPS or Single 3.0 GSPS A/D Converter; DatasheetVersion: SLAS075C; PackageVersion: 4040049/E, 12/2002; PackageReference: N20; PackageDescription: 20-Pin Plastic In-Line, Body 25.40 x 6.35 mm, Pitch 2.54 mm; Supplier 1: Digi-Key; Supplier Part Number 1: 296-16956-2-ND; Digital Supply(Max)(V): 5.5; Digital Supply(Min)(V): 4.75; Eco-Plan: Pb-Free (RoHS); Mounting Technology: Through Hole; Code_JEDEC: MS-001; ComponentLink1Description: Manufacturer URL; ComponentLink1URL: http://www.ti.com/; ComponentLink2Description: Datasheet; ComponentLink2URL: http://www.ti.com/general/docs/lit/getliterature.tsp?genericPartNumber=TLC542&fileType=pdf; ComponentLink3Description: Package Specification; ComponentLink3URL: http://www.ti.com/lit/ml/mpdi002c/mpdi002c.pdf
footprint TI-N20 (DIP, 20-Leads, Body 25.4x6.35 mm, Pitch 2.54 mm)
pins: 1 INPUT A0 (in), 2 INPUT A1 (in), 3 INPUT A2 (in), 4 INPUT A3 (in), 5 INPUT A4 (in), 6 INPUT A5 (in), 7 INPUT A6 (in), 8 INPUT A7 (in), 9 INPUT A8 (in), 10 GND (power), 11 INPUT A9 (in), 12 INPUT A10 (in), 13 REF- (in), 14 REF+ (in), 15 ~{CS} (in), 16 DATA OUT (hiz), 17 ADDRESS INPUT (in), 18 I/O CLOCK (in), 19 SYSTEM CLOCK (in), 20 VCC (power)

## TLC542INE4
designator U?
8-Bit, 25 kSPS ADC Serial-Out, On-Chip 11-Channel Analog Multiplexer, -40 to 85 degC, 20-pin DIP (N20), Pb-Free (RoHS); Manufacturer: Texas Instruments; PartNumber: TLC542INE4; # Input Channels: 11; Analog Voltage AV/DD(Max)(V): 5.5; Analog Voltage AV/DD(Min)(V): 4.75; Architecture: SAR; INL(Max)(+/-LSB): 0.5; Interface: Serial SPI; Resolution(Bits): 8; Sample Rate (max)(SPS): 25k; SubFamily: Low Power, 8-Bit, Dual 1.5 GSPS or Single 3.0 GSPS A/D Converter; DatasheetVersion: SLAS075C; PackageVersion: 4040049/E, 12/2002; PackageReference: N20; PackageDescription: 20-Pin Plastic In-Line, Body 25.40 x 6.35 mm, Pitch 2.54 mm; Supplier 1: Digi-Key; Supplier Part Number 1: 296-2919-5-ND; Digital Supply(Max)(V): 5.5; Digital Supply(Min)(V): 4.75; Eco-Plan: Pb-Free (RoHS); Mounting Technology: Through Hole; Code_JEDEC: MS-001; ComponentLink1Description: Manufacturer URL; ComponentLink1URL: http://www.ti.com/; ComponentLink2Description: Datasheet; ComponentLink2URL: http://www.ti.com/general/docs/lit/getliterature.tsp?genericPartNumber=TLC542&fileType=pdf; ComponentLink3Description: Package Specification; ComponentLink3URL: http://www.ti.com/lit/ml/mpdi002c/mpdi002c.pdf
footprint TI-N20 (DIP, 20-Leads, Body 25.4x6.35 mm, Pitch 2.54 mm)
pins: 1 INPUT A0 (in), 2 INPUT A1 (in), 3 INPUT A2 (in), 4 INPUT A3 (in), 5 INPUT A4 (in), 6 INPUT A5 (in), 7 INPUT A6 (in), 8 INPUT A7 (in), 9 INPUT A8 (in), 10 GND (power), 11 INPUT A9 (in), 12 INPUT A10 (in), 13 REF- (in), 14 REF+ (in), 15 ~{CS} (in), 16 DATA OUT (hiz), 17 ADDRESS INPUT (in), 18 I/O CLOCK (in), 19 SYSTEM CLOCK (in), 20 VCC (power)

## TLC548CD
designator U?
8-Bit, 45.5 kSPS ADC Serial Out, Low Power, Single Channel, 0 to 70 degC, 8-pin SOIC (D8), Green (RoHS & no Sb/Br); Manufacturer: Texas Instruments; PartNumber: TLC548CD; # Input Channels: 1; Analog Voltage AV/DD(Max)(V): 6; Analog Voltage AV/DD(Min)(V): 3; Architecture: SAR; INL(Max)(+/-LSB): 0.5; Interface: Serial SPI; Resolution(Bits): 8; Sample Rate (max)(SPS): 45.5k; SubFamily: Precision ADC (<=10MSPS); DatasheetVersion: SLAS067C; PackageVersion: 4040047-3/M, 06/2011; PackageReference: D8; PackageDescription: 8-Pin Plastic Small Outline, Body 4.9 x 3.9 mm, Pitch 1.27 mm; Supplier 1: Digi-Key; Supplier Part Number 1: TLC540IDWG4-ND; Digital Supply(Max)(V): 6; Digital Supply(Min)(V): 3; Eco-Plan: Green (RoHS & no Sb/Br); Mounting Technology: Surface Mount; Code_JEDEC: MS-012; ComponentLink1Description: Manufacturer URL; ComponentLink1URL: http://www.ti.com/; ComponentLink2Description: Datasheet; ComponentLink2URL: http://www.ti.com/general/docs/lit/getliterature.tsp?genericPartNumber=TLC548&fileType=pdf; ComponentLink3Description: Package Specification; ComponentLink3URL: http://www.ti.com/litv/pdf/msoi002j
footprint TI-D8_N (SOIC, 8-Leads, Body 4.9x3.9mm, Pitch 1.27mm, IPC Medium Density)
footprint TI-D8_L (SOIC, 8-Leads, Body 4.9x3.9mm, Pitch 1.27mm, IPC High Density)
footprint TI-D8_M (SOIC, 8-Leads, Body 4.9x3.9mm, Pitch 1.27mm, IPC Low Density)
pins: 1 REF+ (in), 2 ANALOG IN (in), 3 REF- (in), 4 GND (power), 5 ~{CS} (in), 6 DATA OUT (hiz), 7 I/O CLOCK (in), 8 VCC (power)

## TLC548CDG4
designator U?
8-Bit, 45.5 kSPS ADC Serial Out, Low Power, Single Channel, 0 to 70 degC, 8-pin SOIC (D8), Green (RoHS & no Sb/Br); Manufacturer: Texas Instruments; PartNumber: TLC548CDG4; # Input Channels: 1; Analog Voltage AV/DD(Max)(V): 6; Analog Voltage AV/DD(Min)(V): 3; Architecture: SAR; INL(Max)(+/-LSB): 0.5; Interface: Serial SPI; Resolution(Bits): 8; Sample Rate (max)(SPS): 45.5k; SubFamily: Precision ADC (<=10MSPS); DatasheetVersion: SLAS067C; PackageVersion: 4040047-3/M, 06/2011; PackageReference: D8; PackageDescription: 8-Pin Plastic Small Outline, Body 4.9 x 3.9 mm, Pitch 1.27 mm; Supplier 1: Digi-Key; Supplier Part Number 1: TLC540IDWR-ND; Digital Supply(Max)(V): 6; Digital Supply(Min)(V): 3; Eco-Plan: Green (RoHS & no Sb/Br); Mounting Technology: Surface Mount; Code_JEDEC: MS-012; ComponentLink1Description: Manufacturer URL; ComponentLink1URL: http://www.ti.com/; ComponentLink2Description: Datasheet; ComponentLink2URL: http://www.ti.com/general/docs/lit/getliterature.tsp?genericPartNumber=TLC548&fileType=pdf; ComponentLink3Description: Package Specification; ComponentLink3URL: http://www.ti.com/litv/pdf/msoi002j
footprint TI-D8_N (SOIC, 8-Leads, Body 4.9x3.9mm, Pitch 1.27mm, IPC Medium Density)
footprint TI-D8_L (SOIC, 8-Leads, Body 4.9x3.9mm, Pitch 1.27mm, IPC High Density)
footprint TI-D8_M (SOIC, 8-Leads, Body 4.9x3.9mm, Pitch 1.27mm, IPC Low Density)
pins: 1 REF+ (in), 2 ANALOG IN (in), 3 REF- (in), 4 GND (power), 5 ~{CS} (in), 6 DATA OUT (hiz), 7 I/O CLOCK (in), 8 VCC (power)

## TLC548CDR
designator U?
8-Bit, 45.5 kSPS ADC Serial Out, Low Power, Single Channel, 0 to 70 degC, 8-pin SOIC (D8), Green (RoHS & no Sb/Br); Manufacturer: Texas Instruments; PartNumber: TLC548CDR; # Input Channels: 1; Analog Voltage AV/DD(Max)(V): 6; Analog Voltage AV/DD(Min)(V): 3; Architecture: SAR; INL(Max)(+/-LSB): 0.5; Interface: Serial SPI; Resolution(Bits): 8; Sample Rate (max)(SPS): 45.5k; SubFamily: Precision ADC (<=10MSPS); DatasheetVersion: SLAS067C; PackageVersion: 4040047-3/M, 06/2011; PackageReference: D8; PackageDescription: 8-Pin Plastic Small Outline, Body 4.9 x 3.9 mm, Pitch 1.27 mm; Supplier 1: Digi-Key; Supplier Part Number 1: TLC540IDWRG4-ND; Digital Supply(Max)(V): 6; Digital Supply(Min)(V): 3; Eco-Plan: Green (RoHS & no Sb/Br); Mounting Technology: Surface Mount; Code_JEDEC: MS-012; ComponentLink1Description: Manufacturer URL; ComponentLink1URL: http://www.ti.com/; ComponentLink2Description: Datasheet; ComponentLink2URL: http://www.ti.com/general/docs/lit/getliterature.tsp?genericPartNumber=TLC548&fileType=pdf; ComponentLink3Description: Package Specification; ComponentLink3URL: http://www.ti.com/litv/pdf/msoi002j
footprint TI-D8_N (SOIC, 8-Leads, Body 4.9x3.9mm, Pitch 1.27mm, IPC Medium Density)
footprint TI-D8_L (SOIC, 8-Leads, Body 4.9x3.9mm, Pitch 1.27mm, IPC High Density)
footprint TI-D8_M (SOIC, 8-Leads, Body 4.9x3.9mm, Pitch 1.27mm, IPC Low Density)
pins: 1 REF+ (in), 2 ANALOG IN (in), 3 REF- (in), 4 GND (power), 5 ~{CS} (in), 6 DATA OUT (hiz), 7 I/O CLOCK (in), 8 VCC (power)

## TLC548CDRG4
designator U?
8-Bit, 45.5 kSPS ADC Serial Out, Low Power, Single Channel, 0 to 70 degC, 8-pin SOIC (D8), Green (RoHS & no Sb/Br); Manufacturer: Texas Instruments; PartNumber: TLC548CDRG4; # Input Channels: 1; Analog Voltage AV/DD(Max)(V): 6; Analog Voltage AV/DD(Min)(V): 3; Architecture: SAR; INL(Max)(+/-LSB): 0.5; Interface: Serial SPI; Resolution(Bits): 8; Sample Rate (max)(SPS): 45.5k; SubFamily: Precision ADC (<=10MSPS); DatasheetVersion: SLAS067C; PackageVersion: 4040047-3/M, 06/2011; PackageReference: D8; PackageDescription: 8-Pin Plastic Small Outline, Body 4.9 x 3.9 mm, Pitch 1.27 mm; Supplier 1: Digi-Key; Supplier Part Number 1: 296-2920-5-ND; Digital Supply(Max)(V): 6; Digital Supply(Min)(V): 3; Eco-Plan: Green (RoHS & no Sb/Br); Mounting Technology: Surface Mount; Code_JEDEC: MS-012; ComponentLink1Description: Manufacturer URL; ComponentLink1URL: http://www.ti.com/; ComponentLink2Description: Datasheet; ComponentLink2URL: http://www.ti.com/general/docs/lit/getliterature.tsp?genericPartNumber=TLC548&fileType=pdf; ComponentLink3Description: Package Specification; ComponentLink3URL: http://www.ti.com/litv/pdf/msoi002j
footprint TI-D8_N (SOIC, 8-Leads, Body 4.9x3.9mm, Pitch 1.27mm, IPC Medium Density)
footprint TI-D8_L (SOIC, 8-Leads, Body 4.9x3.9mm, Pitch 1.27mm, IPC High Density)
footprint TI-D8_M (SOIC, 8-Leads, Body 4.9x3.9mm, Pitch 1.27mm, IPC Low Density)
pins: 1 REF+ (in), 2 ANALOG IN (in), 3 REF- (in), 4 GND (power), 5 ~{CS} (in), 6 DATA OUT (hiz), 7 I/O CLOCK (in), 8 VCC (power)

## TLC548CP
designator U?
8-Bit, 45.5 kSPS ADC Serial Out, Low Power, Single Channel, 0 to 70 degC, 8-pin DIP (P8), Pb-Free (RoHS); Manufacturer: Texas Instruments; PartNumber: TLC548CP; # Input Channels: 1; Analog Voltage AV/DD(Max)(V): 6; Analog Voltage AV/DD(Min)(V): 3; Architecture: SAR; INL(Max)(+/-LSB): 0.5; Interface: Serial SPI; Resolution(Bits): 8; Sample Rate (max)(SPS): 45.5k; SubFamily: Precision ADC (<=10MSPS); DatasheetVersion: SLAS067C; PackageVersion: 4040082/E, 04/2010; PackageReference: P8; PackageDescription: 8-Pin Plastic In-Line, Body 9.59 x 6.35 mm, Pitch 2.54 mm; Supplier 1: Digi-Key; Supplier Part Number 1: TLC540IFNG3-ND; Digital Supply(Max)(V): 6; Digital Supply(Min)(V): 3; Eco-Plan: Pb-Free (RoHS); Mounting Technology: Through Hole; Code_JEDEC: MS-001; ComponentLink1Description: Manufacturer URL; ComponentLink1URL: http://www.ti.com/; ComponentLink2Description: Datasheet; ComponentLink2URL: http://www.ti.com/general/docs/lit/getliterature.tsp?genericPartNumber=TLC548&fileType=pdf; ComponentLink3Description: Package Specification; ComponentLink3URL: http://www.ti.com/litv/pdf/mpdi001b
footprint TI-P8 (DIP, 8-Leads, Body 9.59x6.35mm, Pitch 2.54mm)
pins: 1 REF+ (in), 2 ANALOG IN (in), 3 REF- (in), 4 GND (power), 5 ~{CS} (in), 6 DATA OUT (hiz), 7 I/O CLOCK (in), 8 VCC (power)

## TLC548CPE4
designator U?
8-Bit, 45.5 kSPS ADC Serial Out, Low Power, Single Channel, 0 to 70 degC, 8-pin DIP (P8), Pb-Free (RoHS); Manufacturer: Texas Instruments; PartNumber: TLC548CPE4; # Input Channels: 1; Analog Voltage AV/DD(Max)(V): 6; Analog Voltage AV/DD(Min)(V): 3; Architecture: SAR; INL(Max)(+/-LSB): 0.5; Interface: Serial SPI; Resolution(Bits): 8; Sample Rate (max)(SPS): 45.5k; SubFamily: Precision ADC (<=10MSPS); DatasheetVersion: SLAS067C; PackageVersion: 4040082/E, 04/2010; PackageReference: P8; PackageDescription: 8-Pin Plastic In-Line, Body 9.59 x 6.35 mm, Pitch 2.54 mm; Supplier 1: Digi-Key; Supplier Part Number 1: TLC540IFNR-ND; Digital Supply(Max)(V): 6; Digital Supply(Min)(V): 3; Eco-Plan: Pb-Free (RoHS); Mounting Technology: Through Hole; Code_JEDEC: MS-001; ComponentLink1Description: Manufacturer URL; ComponentLink1URL: http://www.ti.com/; ComponentLink2Description: Datasheet; ComponentLink2URL: http://www.ti.com/general/docs/lit/getliterature.tsp?genericPartNumber=TLC548&fileType=pdf; ComponentLink3Description: Package Specification; ComponentLink3URL: http://www.ti.com/litv/pdf/mpdi001b
footprint TI-P8 (DIP, 8-Leads, Body 9.59x6.35mm, Pitch 2.54mm)
pins: 1 REF+ (in), 2 ANALOG IN (in), 3 REF- (in), 4 GND (power), 5 ~{CS} (in), 6 DATA OUT (hiz), 7 I/O CLOCK (in), 8 VCC (power)

## TLC548ID
designator U?
8-Bit, 45.5 kSPS ADC Serial Out, Low Power, Single Channel, -40 to 85 degC, 8-pin SOIC (D8), Green (RoHS & no Sb/Br); Manufacturer: Texas Instruments; PartNumber: TLC548ID; # Input Channels: 1; Analog Voltage AV/DD(Max)(V): 6; Analog Voltage AV/DD(Min)(V): 3; Architecture: SAR; INL(Max)(+/-LSB): 0.5; Interface: Serial SPI; Resolution(Bits): 8; Sample Rate (max)(SPS): 45.5k; SubFamily: Precision ADC (<=10MSPS); DatasheetVersion: SLAS067C; PackageVersion: 4040047-3/M, 06/2011; PackageReference: D8; PackageDescription: 8-Pin Plastic Small Outline, Body 4.9 x 3.9 mm, Pitch 1.27 mm; Supplier 1: Digi-Key; Supplier Part Number 1: TLC540IFNRG3-ND; Digital Supply(Max)(V): 6; Digital Supply(Min)(V): 3; Eco-Plan: Green (RoHS & no Sb/Br); Mounting Technology: Surface Mount; Code_JEDEC: MS-012; ComponentLink1Description: Manufacturer URL; ComponentLink1URL: http://www.ti.com/; ComponentLink2Description: Datasheet; ComponentLink2URL: http://www.ti.com/general/docs/lit/getliterature.tsp?genericPartNumber=TLC548&fileType=pdf; ComponentLink3Description: Package Specification; ComponentLink3URL: http://www.ti.com/litv/pdf/msoi002j
footprint TI-D8_N (SOIC, 8-Leads, Body 4.9x3.9mm, Pitch 1.27mm, IPC Medium Density)
footprint TI-D8_L (SOIC, 8-Leads, Body 4.9x3.9mm, Pitch 1.27mm, IPC High Density)
footprint TI-D8_M (SOIC, 8-Leads, Body 4.9x3.9mm, Pitch 1.27mm, IPC Low Density)
pins: 1 REF+ (in), 2 ANALOG IN (in), 3 REF- (in), 4 GND (power), 5 ~{CS} (in), 6 DATA OUT (hiz), 7 I/O CLOCK (in), 8 VCC (power)

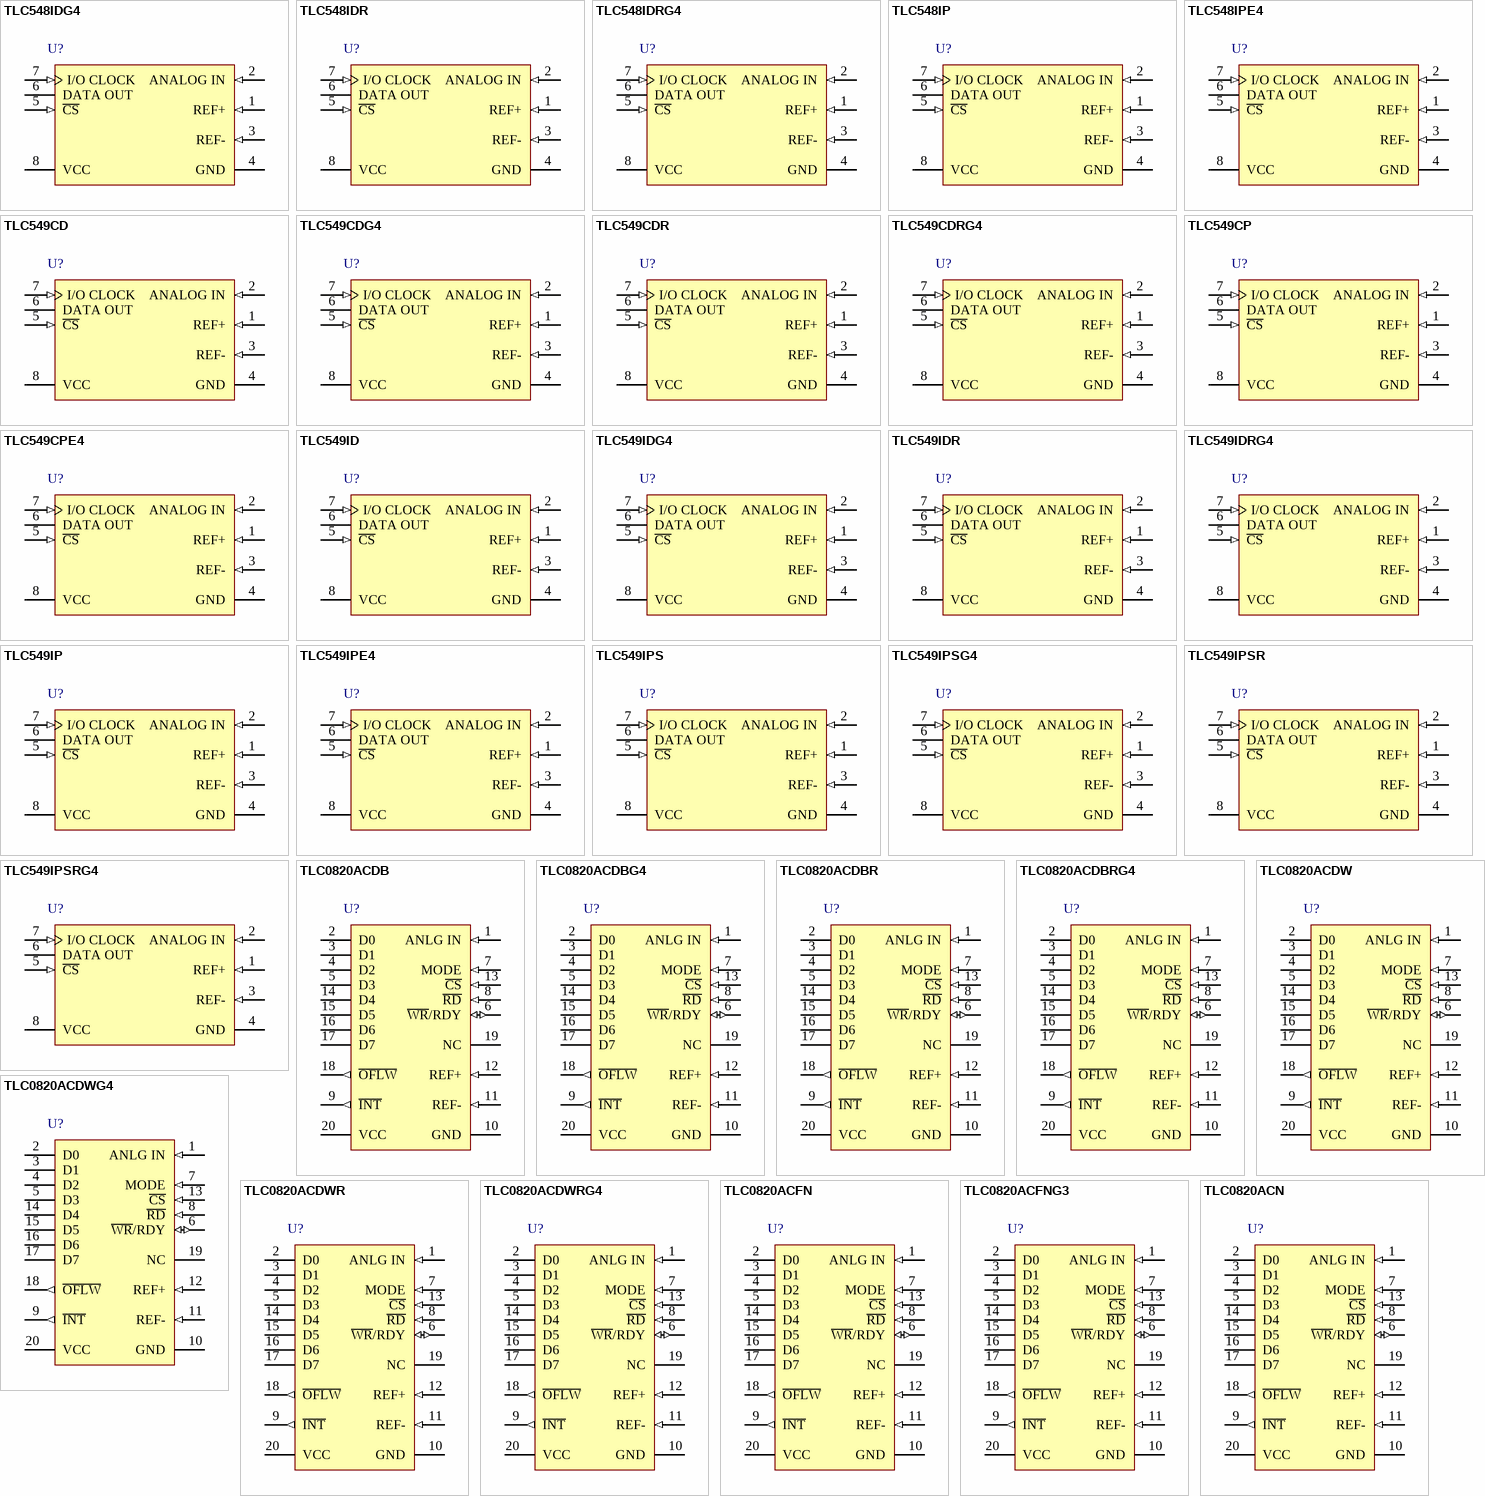
[diagram p102: symbols TLC548IDG4 to TLC0820ACN]

## TLC548IDG4
designator U?
8-Bit, 45.5 kSPS ADC Serial Out, Low Power, Single Channel, -40 to 85 degC, 8-pin SOIC (D8), Green (RoHS & no Sb/Br); Manufacturer: Texas Instruments; PartNumber: TLC548IDG4; # Input Channels: 1; Analog Voltage AV/DD(Max)(V): 6; Analog Voltage AV/DD(Min)(V): 3; Architecture: SAR; INL(Max)(+/-LSB): 0.5; Interface: Serial SPI; Resolution(Bits): 8; Sample Rate (max)(SPS): 45.5k; SubFamily: Precision ADC (<=10MSPS); DatasheetVersion: SLAS067C; PackageVersion: 4040047-3/M, 06/2011; PackageReference: D8; PackageDescription: 8-Pin Plastic Small Outline, Body 4.9 x 3.9 mm, Pitch 1.27 mm; Supplier 1: Digi-Key; Supplier Part Number 1: 296-2921-5-ND; Digital Supply(Max)(V): 6; Digital Supply(Min)(V): 3; Eco-Plan: Green (RoHS & no Sb/Br); Mounting Technology: Surface Mount; Code_JEDEC: MS-012; ComponentLink1Description: Manufacturer URL; ComponentLink1URL: http://www.ti.com/; ComponentLink2Description: Datasheet; ComponentLink2URL: http://www.ti.com/general/docs/lit/getliterature.tsp?genericPartNumber=TLC548&fileType=pdf; ComponentLink3Description: Package Specification; ComponentLink3URL: http://www.ti.com/litv/pdf/msoi002j
footprint TI-D8_N (SOIC, 8-Leads, Body 4.9x3.9mm, Pitch 1.27mm, IPC Medium Density)
footprint TI-D8_L (SOIC, 8-Leads, Body 4.9x3.9mm, Pitch 1.27mm, IPC High Density)
footprint TI-D8_M (SOIC, 8-Leads, Body 4.9x3.9mm, Pitch 1.27mm, IPC Low Density)
pins: 1 REF+ (in), 2 ANALOG IN (in), 3 REF- (in), 4 GND (power), 5 ~{CS} (in), 6 DATA OUT (hiz), 7 I/O CLOCK (in), 8 VCC (power)

## TLC548IDR
designator U?
8-Bit, 45.5 kSPS ADC Serial Out, Low Power, Single Channel, -40 to 85 degC, 8-pin SOIC (D8), Green (RoHS & no Sb/Br); Manufacturer: Texas Instruments; PartNumber: TLC548IDR; # Input Channels: 1; Analog Voltage AV/DD(Max)(V): 6; Analog Voltage AV/DD(Min)(V): 3; Architecture: SAR; INL(Max)(+/-LSB): 0.5; Interface: Serial SPI; Resolution(Bits): 8; Sample Rate (max)(SPS): 45.5k; SubFamily: Precision ADC (<=10MSPS); DatasheetVersion: SLAS067C; PackageVersion: 4040047-3/M, 06/2011; PackageReference: D8; PackageDescription: 8-Pin Plastic Small Outline, Body 4.9 x 3.9 mm, Pitch 1.27 mm; Supplier 1: Digi-Key; Supplier Part Number 1: TLC540INE4-ND; Digital Supply(Max)(V): 6; Digital Supply(Min)(V): 3; Eco-Plan: Green (RoHS & no Sb/Br); Mounting Technology: Surface Mount; Code_JEDEC: MS-012; ComponentLink1Description: Manufacturer URL; ComponentLink1URL: http://www.ti.com/; ComponentLink2Description: Datasheet; ComponentLink2URL: http://www.ti.com/general/docs/lit/getliterature.tsp?genericPartNumber=TLC548&fileType=pdf; ComponentLink3Description: Package Specification; ComponentLink3URL: http://www.ti.com/litv/pdf/msoi002j
footprint TI-D8_N (SOIC, 8-Leads, Body 4.9x3.9mm, Pitch 1.27mm, IPC Medium Density)
footprint TI-D8_L (SOIC, 8-Leads, Body 4.9x3.9mm, Pitch 1.27mm, IPC High Density)
footprint TI-D8_M (SOIC, 8-Leads, Body 4.9x3.9mm, Pitch 1.27mm, IPC Low Density)
pins: 1 REF+ (in), 2 ANALOG IN (in), 3 REF- (in), 4 GND (power), 5 ~{CS} (in), 6 DATA OUT (hiz), 7 I/O CLOCK (in), 8 VCC (power)